# EAGLE library part LTC2418 (library Lin-Temp-Controller)
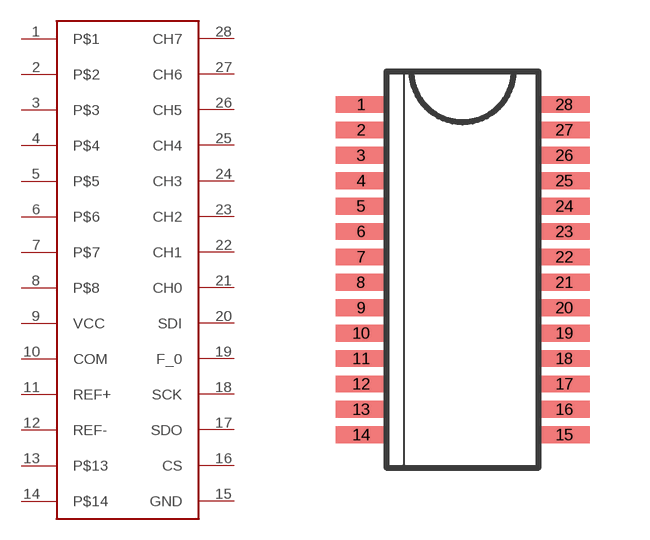
[diagram p7: symbol with the pads of SSOP28; footprint SSOP28]

Designator prefix IC

## LTC2418 (DIGIKEY: LTC2418CGN-ND)  [SSOP28]
1  P$1
2  P$2
3  P$3
4  P$4
5  P$5
6  P$6
7  P$7
8  P$8
9  VCC  pwr
10  COM
11  REF+
12  REF-
13  P$13
14  P$14
15  GND
16  CS
17  SDO
18  SCK
19  F_0
20  SDI
21  CH0
22  CH1
23  CH2
24  CH3
25  CH4
26  CH5
27  CH6
28  CH7

## Footprint SSOP28 (pad centres in mm)
smd 1.27 x 0.419: 1 -2.54,4.128; 2 -2.54,3.493; 3 -2.54,2.857; 4 -2.54,2.223; 5 -2.54,1.587; 6 -2.54,0.953; 7 -2.54,0.318; 8 -2.54,-0.318; 9 -2.54,-0.953; 10 -2.54,-1.587; 11 -2.54,-2.223; 12 -2.54,-2.857; 13 -2.54,-3.493; 14 -2.54,-4.128; 15 2.54,-4.128; 16 2.54,-3.493; 17 2.54,-2.857; 18 2.54,-2.223; 19 2.54,-1.587; 20 2.54,-0.953; 21 2.54,-0.318; 22 2.54,0.318; 23 2.54,0.953; 24 2.54,1.587; 25 2.54,2.223; 26 2.54,2.857; 27 2.54,3.493; 28 2.54,4.128